# Altium schematic symbol library Galileo_Control_Board.SchLib: 7 symbols
Pins are listed as number, name and electrical type; pins without a type are passive.

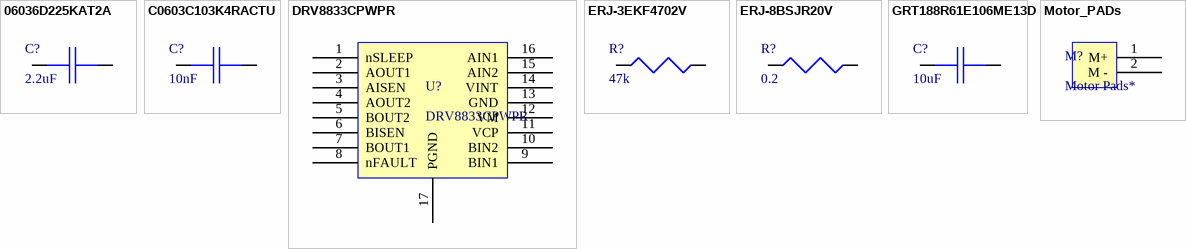
[diagram p0: symbols 06036D225KAT2A to Motor_PADs]

## 06036D225KAT2A
designator C?, comment 2.2uF
CAP CER 2.2UF 6.3V X5R 0603; Manufacturer: AVX Corporation; Manufacturer Part Number: 06036D225KAT2A; Capacitance: 2.2µF; Tolerance: ±10%; Supplier 1: Digi-Key; RoHS: RoHS Compliant; Category: Capacitors; Stock 1: 9901; Pricing 1: 1=0.27, 10=0.224, 100=0.112, 250=0.084, 500=0.0742, 1000=0.0658 (USD); Packaging: Cut Tape (CT); Voltage - Rated: 6.3V; Temperature Coefficient: X5R; Mounting Type: Surface Mount, MLCC; Operating Temperature: -55°C ~ 85°C; Applications: General Purpose; Ratings: -; Package / Case: 0603 (1608 Metric); Size / Dimension: 0.063" L x 0.032" W (1.60mm x 0.81mm); Height - Seated (Max): -; Thickness (Max): 0.035" (0.90mm); Lead Spacing: -; Features: -; Lead Style: -; ComponentLink1URL: http://datasheets.avx.com/cx5r.pdf; ComponentLink1Description: http://datasheets.avx.com/cx5r.pdf; Supplier Part Number 1: 478-1252-1-ND
footprint C0603
pins: 1, 2

## C0603C103K4RACTU
designator C?, comment 10nF
CAP CER 10000PF 16V X7R 0603; Manufacturer: Kemet; Manufacturer Part Number: C0603C103K4RACTU; Tolerance: ±10%; Supplier 1: Digi-Key; RoHS: RoHS Compliant; Category: Capacitors; Stock 1: 179935; Pricing 1: 1=0.25, 10=0.173, 50=0.105, 100=0.0882, 250=0.0714, 500=0.063, 1000=0.05355 (USD); Packaging: Cut Tape (CT); Capacitance: 10000pF; Voltage - Rated: 16V; Temperature Coefficient: X7R; Mounting Type: Surface Mount, MLCC; Operating Temperature: -55°C ~ 125°C; Applications: General Purpose; Ratings: -; Package / Case: 0603 (1608 Metric); Size / Dimension: 0.063" L x 0.031" W (1.60mm x 0.80mm); Height - Seated (Max): -; Thickness (Max): 0.034" (0.87mm); Lead Spacing: -; Features: -; Lead Style: -; ComponentLink1URL: http://www.kemet.com/docfinder?Partnumber=C0603C103K4RACTU; ComponentLink1Description: http://www.kemet.com/docfinder?Partnumber=C0603C103K4RACTU; Supplier Part Number 1: 399-7841-1-ND
footprint C0603
pins: 1, 2

## DRV8833CPWPR
designator U?
IC MOTOR DRIVER PAR; Manufacturer: Texas Instruments; Output Configuration: Half Bridge (4); Interface: PWM; Load Type: Inductive; Rds On (Typ): 550 mOhm LS, 1.18 Ohm HS; Current - Output / Channel: 700mA; Current - Peak Output: 1A; Voltage - Supply: 2.7 V ~ 10.8 V; Fault Protection: Current Limiting, Over Temperature, Short Circuit, UVLO; Supplier 1: Digi-Key; Manufacturer Part Number: DRV8833CPWPR; RoHS: RoHS Compliant; Category: Integrated Circuits (ICs); Stock 1: 779; Pricing 1: 1=2.05, 10=1.843, 100=1.4783, 500=1.215, 1000=0.84375 (USD); Packaging: Cut Tape (CT); Applications: DC Motors, General Purpose, Solenoids, Stepper Motors; Technology: Power MOSFET; Voltage - Load: 2.7 V ~ 10.8 V; Operating Temperature: -40°C ~ 150°C (TJ); Features: Status Flag; Mounting Type: Surface Mount; Package / Case: 16-TSSOP (0.173", 4.40mm Width) Exposed Pad; Supplier Device Package: 16-HTSSOP; ComponentLink1URL: http://www.ti.com/lit/ds/symlink/drv8833c.pdf; ComponentLink1Description: http://www.ti.com/lit/ds/symlink/drv8833c.pdf; Supplier Part Number 1: 296-40078-1-ND
footprint SOP16
pins: 1 nSLEEP, 2 AOUT1, 3 AISEN, 4 AOUT2, 5 BOUT2, 6 BISEN, 7 BOUT1, 8 nFAULT, 9 BIN1, 10 BIN2, 11 VCP, 12 VM, 13 GND, 14 VINT, 15 AIN2, 16 AIN1, 17 PGND

## ERJ-3EKF4702V
designator R?, comment 47k
RES SMD 47K OHM 1% 1/10W 0603; Manufacturer: Panasonic Electronic Components; Manufacturer Part Number: ERJ-3EKF4702V; Power (Watts): 0.1W, 1/10W; Temperature Coefficient: ±100ppm/°C; Supplier 1: Digi-Key; RoHS: RoHS Compliant; Category: Resistors; Stock 1: 3738786; Pricing 1: 1=0.1, 50=0.0114, 100=0.0084, 250=0.00644, 500=0.00514, 1000=0.00379 (USD); Packaging: Cut Tape (CT); Resistance (Ohms): 47k; Tolerance: ±1%; Composition: Thick Film; Features: Automotive AEC-Q200; Operating Temperature: -55°C ~ 155°C; Package / Case: 0603 (1608 Metric); Supplier Device Package: 0603; Size / Dimension: 0.063" L x 0.031" W (1.60mm x 0.80mm); Height: 0.022" (0.55mm); Number of Terminations: 2; ComponentLink1URL: http://industrial.panasonic.com/www-cgi/jvcr13pz.cgi?E+PZ+3+AOA0002+ERJ3EKF4702V+7+WW; ComponentLink1Description: http://industrial.panasonic.com/www-cgi/jvcr13pz.cgi?E+PZ+3+AOA0002+ERJ3EKF4702V+7+WW; Supplier Part Number 1: P47.0KHCT-ND
footprint R0603
pins: 1, 2

## ERJ-8BSJR20V
designator R?, comment 0.2
RES SMD 0.2 OHM 5% 1/2W 1206; Manufacturer: Panasonic Electronic Components; Manufacturer Part Number: ERJ-8BSJR20V; Power (Watts): 0.5W, 1/2W; Temperature Coefficient: ±250ppm/°C; Supplier 1: Digi-Key; RoHS: RoHS Compliant; Category: Resistors; Stock 1: 4865; Pricing 1: 1=0.43, 50=0.1858, 100=0.1381, 250=0.11668, 500=0.10002, 1000=0.07621 (USD); Packaging: Cut Tape (CT); Resistance (Ohms): 0.2; Tolerance: ±5%; Composition: Thick Film; Features: Automotive AEC-Q200, Current Sense; Operating Temperature: -55°C ~ 125°C; Package / Case: 1206 (3216 Metric); Supplier Device Package: 1206; Size / Dimension: 0.126" L x 0.063" W (3.20mm x 1.60mm); Height: 0.028" (0.70mm); Number of Terminations: 2; ComponentLink1URL: https://industrial.panasonic.com/cdbs/www-data/pdf/RDA0000/AOA0000C239.pdf; ComponentLink1Description: https://industrial.panasonic.com/cdbs/www-data/pdf/RDA0000/AOA0000C239.pdf; Supplier Part Number 1: P17692CT-ND
footprint R1206
pins: 1, 2

## GRT188R61E106ME13D
designator C?, comment 10uF
CAP CER 10UF 25V X5R 0603; Manufacturer: Murata Electronics North America; Manufacturer Part Number: GRT188R61E106ME13D; Capacitance: 10µF; Tolerance: ±20%; Supplier 1: Digi-Key; RoHS: RoHS Compliant; Category: Capacitors; Stock 1: 62; Pricing 1: 1=0.48, 10=0.424, 50=0.2576, 100=0.2121, 250=0.16968, 500=0.15454, 1000=0.13938 (USD); Packaging: Cut Tape (CT); Voltage - Rated: 25V; Temperature Coefficient: X5R; Mounting Type: Surface Mount, MLCC; Operating Temperature: -55°C ~ 85°C; Applications: Automotive; Ratings: AEC-Q200; Package / Case: 0603 (1608 Metric); Size / Dimension: 0.063" L x 0.031" W (1.60mm x 0.80mm); Height - Seated (Max): -; Thickness (Max): 0.035" (0.90mm); Lead Spacing: -; Features: -; Lead Style: -; ComponentLink1URL: http://search.murata.co.jp/Ceramy/image/img/A01X/G101/ENG/GRT188R61E106ME13-01.pdf; ComponentLink1Description: http://search.murata.co.jp/Ceramy/image/img/A01X/G101/ENG/GRT188R61E106ME13-01.pdf; Supplier Part Number 1: 490-12323-1-ND
footprint C0603
pins: 1, 2

## Motor_PADs
designator M?, comment Motor Pads*
Manufacturer: Portescap; Manufacturer Part Number: 22N1R78313P1001; Description: STANDARD MOTOR 10000 RPM 9VDC; Function: Standard; Motor Type: Brushed; Voltage - Rated: 9VDC; RPM: 10000 RPM; Torque - Rated (oz-in / mNm): 2.05 / 14.5; Power - Rated: 12W; Mounting Hole Spacing: 0.670" (17.00mm); Supplier 1: Digi-Key; RoHS: RoHS Compliant; Category: Motors, Solenoids, Driver Boards/Modules; Stock 1: 8; Pricing 1: 1=88.51, 5=86.956, 10=85.402, 25=83.8496, 50=82.6074, 100=80.744, 250=79.19128, 500=77.6385 (USD); Type: DC Motor; Encoder Type: -; Size / Dimension: Round - 0.866" Dia (22.00mm); Diameter - Shaft: 0.059" (1.50mm); Length - Shaft and Bearing: 0.295" (7.50mm); Termination Style: Solder Tab; Features: -; Gear Reduction Ratio: -; Torque - Max Momentary (oz-in / mNm): -; Operating Temperature: -30°C ~ 85°C; Approvals: -; Weight: 0.117 lb (53.07g); Supplier Part Number 1: 403-1050-ND
footprint Motor_PAD
pins: 1 M+, 2 M -